# Altium footprint library ECSlib.PcbLib: 53 footprints (part 1 of 4)
Each footprint in its own frame and in the unit in brackets; x right, y up, seen from the top. Pads: shape width x height; smd on the part's side, far side on the other; paste and mask are expansions set on the pad; w line width, h text height; cw(c..) or ccw(c..) is an arc to the next point about the centre after c.
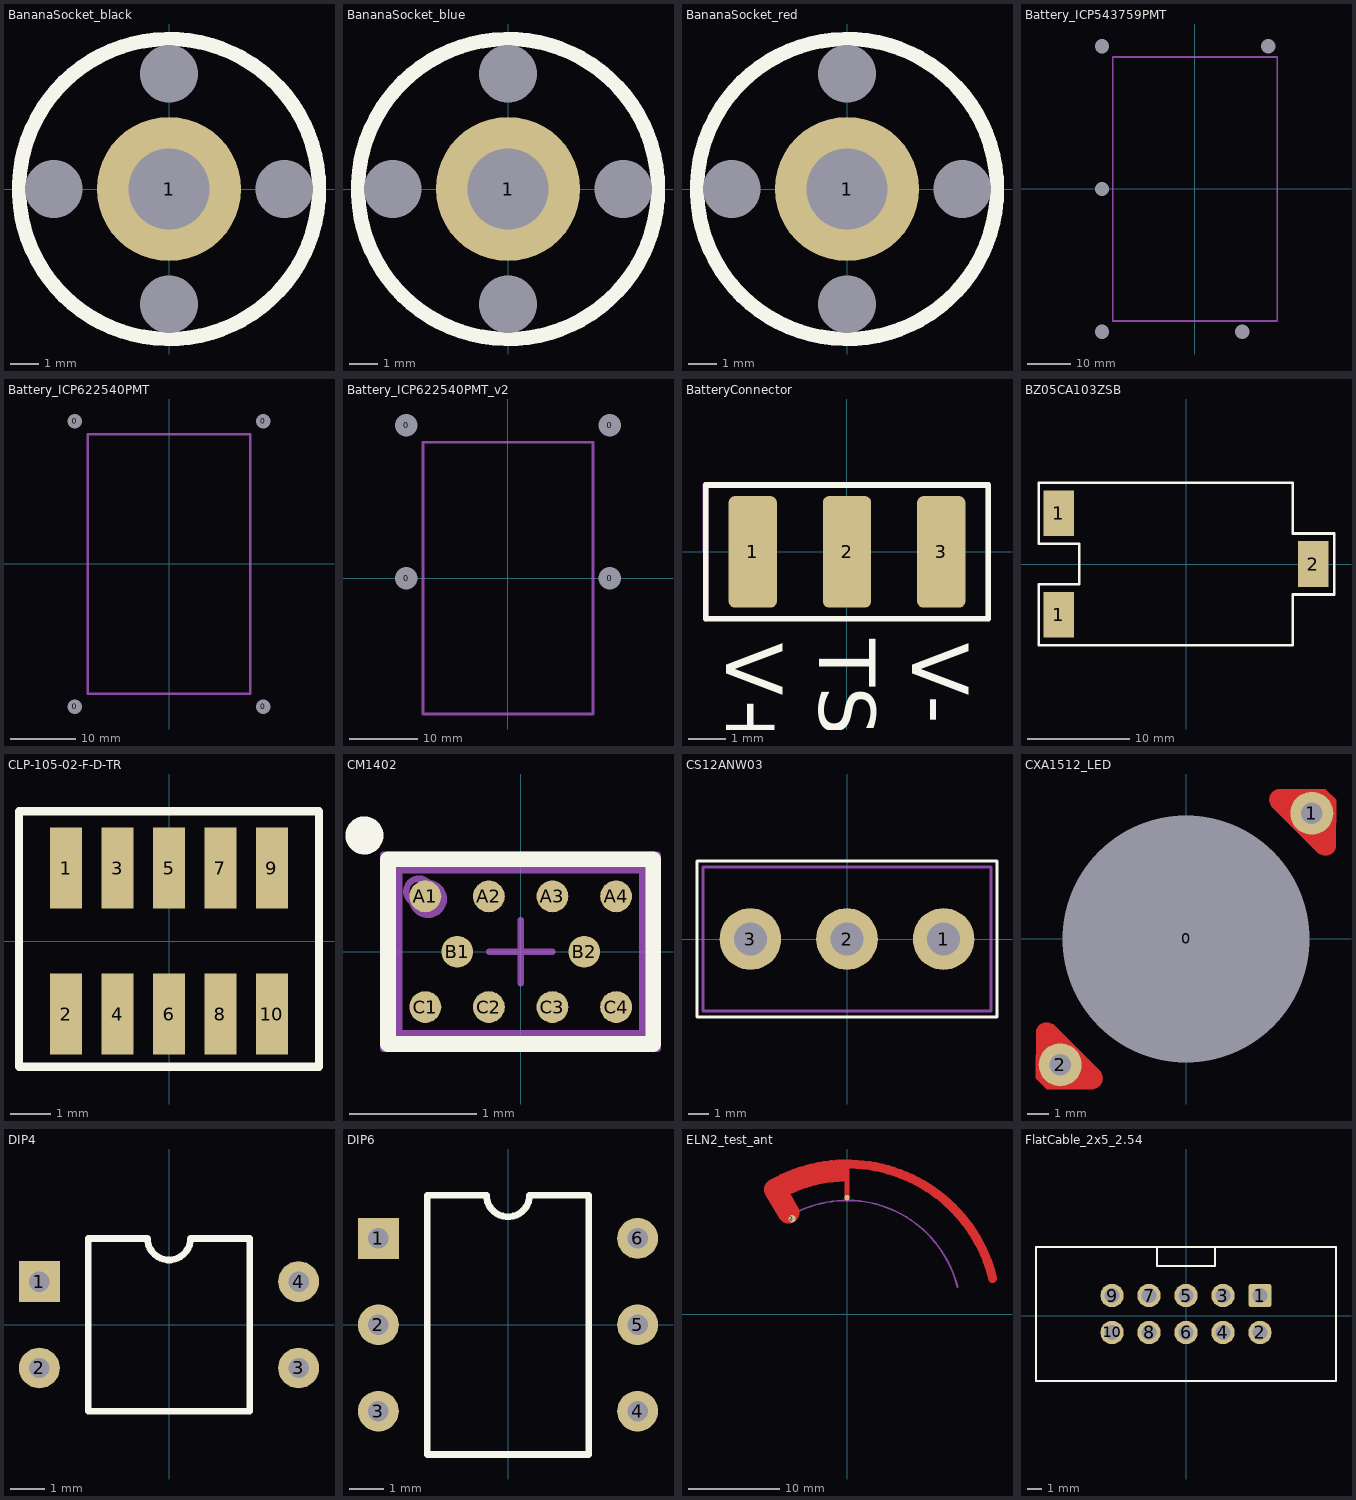
[diagram p0: the footprints below, top view; thin cyan lines are the x and y axes]

## BananaSocket_black [mm]
pads (5):
  round 0 hole 2 unplated: 0(-4,0) 0(0,-4) 0(0,4) 0(4,0)
  round 5 hole 2.8: 1(0,0)
Top Overlay:
  circle w0.5: c0,0 r5.2
3D body: height 0, standoff 0, extent -4.893,-0.898 -3.1,0.898
3D body: height 0, standoff 0, extent -0.893,-4.898 0.9,-3.102
3D body: height 0, standoff 0, extent 3.107,-0.898 4.9,0.898
3D body: height 0, standoff 0, extent -0.893,3.102 0.9,4.898
3D body: height 0, standoff 0, extent -1.19,-1.197 1.2,1.198
3D body: height 23.5, standoff 0, extent -5.2,-5.197 5.2,5.197

## BananaSocket_blue [mm]
pads (5):
  round 0 hole 2 unplated: 0(-4,0) 0(0,-4) 0(0,4) 0(4,0)
  round 5 hole 2.8: 1(0,0)
Top Overlay:
  circle w0.5: c0,0 r5.2
3D body: height 23.5, standoff 0, extent -5.2,-5.197 5.2,5.197
3D body: height 0, standoff 0, extent -1.19,-1.197 1.2,1.198
3D body: height 0, standoff 0, extent -0.893,3.102 0.9,4.898
3D body: height 0, standoff 0, extent 3.107,-0.898 4.9,0.898
3D body: height 0, standoff 0, extent -0.893,-4.898 0.9,-3.102
3D body: height 0, standoff 0, extent -4.893,-0.898 -3.1,0.898

## BananaSocket_red [mm]
pads (5):
  round 0 hole 2 unplated: 0(-4,0) 0(0,-4) 0(0,4) 0(4,0)
  round 5 hole 2.8: 1(0,0)
Top Overlay:
  circle w0.5: c0,0 r5.2
3D body: height 0, standoff 0, extent -4.893,-0.898 -3.1,0.898
3D body: height 0, standoff 0, extent -0.893,-4.898 0.9,-3.102
3D body: height 0, standoff 0, extent 3.107,-0.898 4.9,0.898
3D body: height 0, standoff 0, extent -0.893,3.102 0.9,4.898
3D body: height 0, standoff 0, extent -1.19,-1.197 1.2,1.198
3D body: height 23.5, standoff 0, extent -5.2,-5.197 5.2,5.197

## Battery_ICP543759PMT [mil] "1260mAh"
pads (5):
  round 60 hole 129.92: 0(-846.46,-1299.21) 0(-846.46,0) 0(-846.46,1299.21) 0(429.13,-1299.22) 0(665.35,1299.21)
Mechanical 13:
  lines w15.75: -748.03,-1200.79 748.03,-1200.79 748.03,1200.79 -748.03,1200.79 -748.03,-1200.79
3D body: height 295.28, standoff 59.06, extent -748.03,-1200.79 748.03,1200.79
3D body: height 177.17, standoff -59.06, extent -905.51,-59.05 -787.4,59.06
3D body: height 177.17, standoff -59.06, extent -905.51,-1358.26 -787.4,-1240.15
3D body: height 236.22, standoff 78.74, extent -551.18,-1358.27 511.81,-1240.16
3D body: height 177.17, standoff -59.06, extent 370.08,-1358.27 488.19,-1240.16
3D body: height 236.22, standoff 0, extent 350.39,-1358.27 511.81,-1240.16
3D body: height 236.22, standoff 0, extent -905.51,-1358.27 -551.18,-1003.94
3D body: height 236.22, standoff 0, extent -905.51,1003.94 -551.18,1358.27
3D body: height 236.22, standoff 78.74, extent -905.51,-1003.94 -787.4,1003.94
3D body: height 236.22, standoff 0, extent -905.51,-78.74 -787.4,82.68
3D body: height 236.22, standoff 78.74, extent -551.18,1240.16 748.03,1358.27
3D body: height 177.17, standoff -59.06, extent -905.51,1240.16 -787.4,1358.27
3D body: height 177.17, standoff -59.06, extent 606.3,1240.16 724.41,1358.27
3D body: height 236.22, standoff 0, extent 586.61,1240.16 748.03,1358.27

## Battery_ICP622540PMT [mm] "550mAh"
pads (4):
  round 1.524 hole 2.2: 0(-14.5,-22) 0(-14.5,22) 0(14.5,-22) 0(14.5,22)
Mechanical 13:
  lines w0.4: -12.5,-20 12.5,-20 12.5,20 -12.5,20 -12.5,-20
3D body: height 6.5, standoff 1.5, extent -12.5,-20 12.5,20
3D body: height 4, standoff 0, extent -15.5,-23 -8.5,-21
3D body: height 4, standoff 0, extent -15.5,21 -8.5,23
3D body: height 4, standoff 0, extent 8.5,-23 15.5,-21
3D body: height 4, standoff 0, extent 13.5,-23 15.5,-16
3D body: height 4, standoff 0, extent 8.5,21 15.5,23
3D body: height 4, standoff 0, extent 13.5,16 15.5,23
3D body: height 4, standoff 0, extent -15.5,-23 -13.5,-16
3D body: height 0, standoff 0, extent -14.5,22 -14.5,22
3D body: height 4, standoff 1.5, extent -13.5,21 13.5,23
3D body: height 4, standoff 1.5, extent -13.5,-23 13.5,-21
3D body: height 4, standoff 2, extent 13.5,-21 15.5,21
3D body: height 4, standoff 0, extent -15.5,16 -13.5,23
3D body: height 0, standoff 0, extent 14.5,22 14.5,22
3D body: height 0, standoff 0, extent 14.5,-22 14.5,-22
3D body: height 0, standoff 0, extent -14.5,-22 -14.5,-22

## Battery_ICP622540PMT_v2 [mm] "550mAh"
pads (4):
  round 1.524 hole 3.3: 0(-15,22.5) 0(-15,0) 0(15,22.5) 0(15,0)
Mechanical 13:
  lines w0.4: -12.5,-20 12.5,-20 12.5,20 -12.5,20 -12.5,-20
3D body: height 6.5, standoff 1.5, extent -12.5,-20 12.5,20
3D body: height 4, standoff 0, extent 13.5,21 16.5,24
3D body: height 4, standoff 0, extent 13.5,-1.5 16.5,1.5
3D body: height 4, standoff 0, extent -16.5,-1.5 -13.5,1.5
3D body: height 4, standoff 0, extent -16.5,21 -13.5,24
3D body: height 2.5, standoff -1.5, extent -16.5,-1.5 -13.5,1.5
3D body: height 2.5, standoff -1.5, extent 13.5,-1.5 16.5,1.5
3D body: height 2.5, standoff -1.5, extent 13.5,21 16.5,24
3D body: height 2.5, standoff -1.5, extent -16.5,21 -13.5,24
3D body: height 4, standoff 1.5, extent -13.5,21 13.5,23
3D body: height 4, standoff 1.5, extent 13.5,-1.5 15.5,21
3D body: height 4, standoff 1.5, extent -15.5,-1.5 -13.5,21

## BatteryConnector [mm] "Plug connector SMD"
pads (3):
  rrect25% 1.3x3 smd: 1(-2.54,0) 2(0,0) 3(2.54,0)
Top Overlay:
  lines w0.15: -3.81,-1.8 -3.81,1.8 3.81,1.8 3.81,-1.8 ; -3.81,-1.8 3.81,-1.8 ; -3.809,-1.8 3.81,-1.8
  text "TS" at -0.746,-2.354 h1.52
  text "V+" at -3.246,-2.454 h1.52
  text "V-" at 1.754,-2.454 h1.52
Mechanical 13:
  lines w0.15: -3.809,-1.8 -3.81,1.8 3.81,1.8 3.81,-1.8

## BZ05CA103ZSB [mm]
pads (3):
  rect 3x4.5 smd: 1(-12.5,-5) 1(-12.5,5) 2(12.5,0)
Top Overlay:
  lines w0.25: -14.5,-8 10.5,-8 10.5,-3 14.6,-3 14.6,3 10.5,3 10.5,8 -14.5,8 -14.5,2 -10.5,2 -10.5,-2 -14.5,-2 -14.5,-8
3D body: height 6.5, standoff 0.2, extent -10,-7.5 10,7.5
3D body: height 0.5, standoff 0, extent -12.5,-6.25 -10,-3.75
3D body: height 0.5, standoff 0, extent -12.5,3.75 -10,6.25
3D body: height 0.5, standoff 0, extent 10,-1.25 13.6,1.25

## CLP-105-02-F-D-TR [mm]
pads (10):
  rect 0.8x2 smd: 1(-2.54,1.8) 2(-2.54,-1.8) 3(-1.27,1.8) 4(-1.27,-1.8) 5(0,1.8) 6(0,-1.8) 7(1.27,1.8) 8(1.27,-1.8) 9(2.54,1.8) 10(2.54,-1.8)
Top Overlay:
  lines w0.2: -3.7,-3.1 -3.7,3.2 3.7,3.2 3.7,-3.1 -3.7,-3.1
3D body "CLP-105-02-F-D-TR.stp": height 2.28, standoff -0.01, extent -3.391,-2.159 3.391,2.159

## CM1402 [mm]
pads (10):
  round 0.25 smd mask+0.05: A1(-0.75,0.435) A2(-0.25,0.435) A3(0.25,0.435) A4(0.75,0.435) B1(-0.5,0) B2(0.5,0) C1(-0.75,-0.435) C2(-0.25,-0.435) C3(0.25,-0.435) C4(0.75,-0.435)
Top Overlay:
  circle w0.2: c-1.23,0.915 r0.05
  lines w0.125: -1.042,-0.727 1.042,-0.727 1.042,0.727 -1.042,0.727 -1.042,-0.727
3D Body Bottom:
  circle w0.2: c-0.73,0.415 r0.05
  lines w0.1: -0.98,-0.665 -0.98,0.665 0.98,0.665 0.98,-0.665 -0.98,-0.665
  text ".Designator" at -0.533,-0.127 h0.3
Mechanical 15:
  circle w0.05: c-0.8,0.475 r0.1
  lines w0.05: -0.25,0 0.25,0 ; 0,-0.25 0,0.25 ; -1.08,-0.765 1.08,-0.765 1.08,0.765 -1.08,0.765 -1.08,-0.765
3D body: height 0.72, standoff 0.21, extent -0.98,-0.665 0.98,0.665

## CS12ANW03 [mm]
pads (3):
  round 3 hole 1.6: 1(4.7,0) 2(0,0) 3(-4.7,0)
Top Overlay:
  lines w0.15: -7.3,-3.8 -7.3,3.8 7.3,3.8 7.3,-3.8 -7.3,-3.8
Mechanical 13:
  lines w0.15: -7,-3.5 7,-3.5 7,3.5 -7,3.5 -7,-3.5
3D body: height 2.1, standoff -6.4, extent -5.1,-0.25 -4.3,0.25
3D body: height 2.1, standoff -6.4, extent -0.4,-0.25 0.4,0.25
3D body: height 2.1, standoff -6.4, extent 4.3,-0.25 5.1,0.25
3D body: height 13.6, standoff 8.5, extent 0,-1.9 3.8,1.9
3D body: height 8.5, standoff 2.1, extent -7,-3.5 7,3.5
3D body: height 2.5, standoff 0, extent -2.6,-3.1 -1.9,3.1
3D body: height 2.5, standoff 0, extent 1.9,-3.1 2.6,3.1

## CXA1512_LED [mm]
pads (3):
  round 0.9 hole 11.5 unplated: 0(0,0)
  round 2 hole 1 unplated: 1(5.85,5.85) 2(-5.85,-5.85)
Top Layer:
  region: -4.302,-6.975 -6.475,-6.975 -6.975,-6.475 -6.975,-4.301 -6.964,-4.238 -6.912,-4.119 -6.831,-4.018 -6.728,-3.941 -6.609,-3.891 -6.481,-3.873 -6.352,-3.888 -6.232,-3.934 -6.179,-3.972 -3.972,-6.179 -3.972,-6.18 -3.933,-6.232 -3.885,-6.353 -3.869,-6.482 -3.887,-6.611 -3.936,-6.731 -4.015,-6.834 -4.118,-6.914 -4.237,-6.966
  region: 4.301,6.975 6.475,6.975 6.975,6.475 6.975,4.301 6.964,4.237 6.912,4.119 6.831,4.018 6.728,3.941 6.609,3.891 6.481,3.873 6.352,3.888 6.231,3.934 6.179,3.972 3.972,6.179 3.972,6.18 3.933,6.232 3.885,6.353 3.869,6.482 3.886,6.611 3.936,6.731 4.015,6.834 4.118,6.914 4.237,6.965
Top Solder:
  region: -4.302,-6.975 -6.475,-6.975 -6.975,-6.475 -6.975,-4.301 -6.964,-4.238 -6.912,-4.119 -6.831,-4.018 -6.728,-3.941 -6.609,-3.891 -6.481,-3.873 -6.352,-3.888 -6.232,-3.934 -6.179,-3.972 -3.972,-6.179 -3.972,-6.18 -3.933,-6.232 -3.885,-6.353 -3.869,-6.482 -3.887,-6.611 -3.936,-6.731 -4.015,-6.834 -4.118,-6.914 -4.237,-6.966
  region: 4.301,6.975 6.475,6.975 6.975,6.475 6.975,4.301 6.964,4.237 6.912,4.119 6.831,4.018 6.728,3.941 6.609,3.891 6.481,3.873 6.352,3.888 6.231,3.934 6.179,3.972 3.972,6.179 3.972,6.18 3.933,6.232 3.885,6.353 3.869,6.482 3.886,6.611 3.936,6.731 4.015,6.834 4.118,6.914 4.237,6.965
3D body: height 0.02, standoff 0, extent -6.975,-6.975 -3.874,-3.873
3D body: height 0, standoff 0, extent 0,0 0,0
3D body: height 1.15, standoff 0.02, extent -8,-8 8,8
3D body: height 0.02, standoff 0, extent 3.874,3.873 6.975,6.975
3D body: height 1.25, standoff 1.15, extent -8,-8 8,8

## DIP4 [mm]
pads (4):
  rect 1.2x1.2 hole 0.6: 1(-3.81,1.27)
  round 1.2 hole 0.6: 2(-3.81,-1.27) 3(3.81,-1.27) 4(3.81,1.27)
Top Overlay:
  lines w0.2: -2.375,-2.54 2.375,-2.54 2.375,2.54 0.635,2.54 cw(c0,2.54) -0.635,2.54 -2.375,2.54 -2.375,-2.54

## DIP6 [mm]
pads (6):
  rect 1.2x1.2 hole 0.6: 1(-3.81,2.54)
  round 1.2 hole 0.6: 2(-3.81,0) 3(-3.81,-2.54) 4(3.81,-2.54) 5(3.81,0) 6(3.81,2.54)
Top Overlay:
  lines w0.2: -2.375,-3.81 -2.375,3.81 -0.635,3.81 ccw(c0,3.81) 0.635,3.81 2.375,3.81 2.375,-3.81 -2.375,-3.81

## ELN2_test_ant [mm]
pads (2):
  round 0.6 smd: 1(0,12.8)
  round 0.8 hole 0.25: 2(-6.05,10.479)
Top Layer:
  lines w0.6: -7.437,12.881 cw(c0,0) 0,14.874 ; 0,12.8 0,16.5
  lines w1: -8.25,14.289 cw(c0,0) 16.025,3.93
  lines w2.426: -6.45,11.171 -7.893,13.672 cw(c0,0) -1.099,15.749
Mechanical 1:
  lines w0.2: -6.25,10.825 cw(c0,0) 12.14,2.977

## FlatCable_2x5_2.54 [mm]
pads (10):
  rrect25% 1.6x1.6 hole 1: 1(5.08,1.4)
  round 1.6 hole 1: 2(5.08,-1.14) 3(2.54,1.4) 4(2.54,-1.14) 5(0,1.4) 6(0,-1.14) 7(-2.54,1.4) 8(-2.54,-1.14) 9(-5.08,1.4) 10(-5.08,-1.14)
Top Overlay:
  lines w0.15: -2,4.73 -2,3.43 2,3.43 2,4.73 ; -10.3,-4.47 -10.3,4.73 10.3,4.73 10.3,-4.47 -10.3,-4.47
Mechanical 13:
  lines w0.15: -10.3,-4.47 10.3,-4.47 10.3,4.73 2,4.73 2,3.43 -2,3.43 -2,4.73 -10.3,4.73 -10.3,-4.47
3D body: height 8, standoff -2.5, extent 4.78,-1.44 5.38,-0.84
3D body: height 8, standoff -2.5, extent 2.24,-1.44 2.84,-0.84
3D body: height 8, standoff -2.5, extent -0.3,-1.44 0.3,-0.84
3D body: height 8, standoff -2.5, extent -2.84,-1.44 -2.24,-0.84
3D body: height 8, standoff -2.5, extent -5.38,-1.44 -4.78,-0.84
3D body: height 8, standoff -2.5, extent 4.78,1.1 5.38,1.7
3D body: height 8, standoff -2.5, extent 2.24,1.1 2.84,1.7
3D body: height 8, standoff -2.5, extent -0.3,1.1 0.3,1.7
3D body: height 8, standoff -2.5, extent -2.84,1.1 -2.24,1.7
3D body: height 8, standoff -2.5, extent -5.38,1.1 -4.78,1.7
3D body: height 9.1, standoff 0.3, extent -10.3,-4.47 10.3,4.73
3D body: height 2.7, standoff 0.3, extent -10.3,-4.47 10.3,4.73